# EAGLE library part HBHR-B2-10-VG-SMT (library HBHR-B2-10-VG-SMT)
Socket; IDC; male; PIN: 10; vertical; SMT; 1.27mm; Layout: 2x5 Source: Datasheet <https://www.tme.eu/Document/f0773974da5cb69f05b89f0736d15334/HBHR-B2-XX-VG-SMT.pdf>
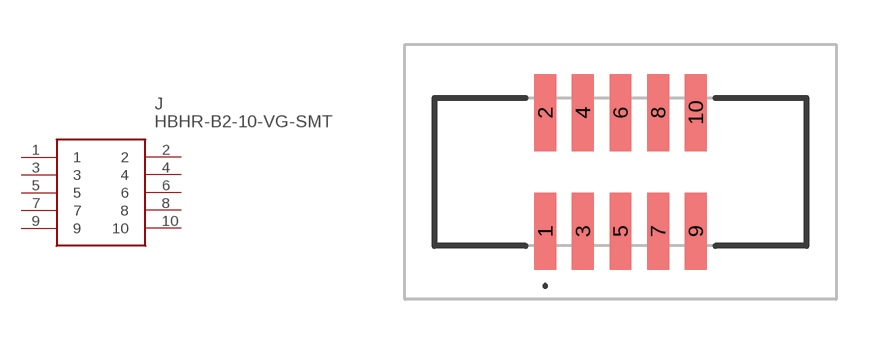
[diagram p0: symbol with the pads of HBHRB210VGSMT; footprint HBHRB210VGSMT]

Designator prefix J

## HBHR-B2-10-VG-SMT (Description: Socket; IDC; male; PIN: 10; vertical; SMT; 1.27mm; Layout: 2x5; Height: 6.081mm; Manufacturer_Name: Adam Tech; Manufacturer_Part_Number: HBHR-B2-10-VG-SMT)  [HBHRB210VGSMT]
1  1
2  2
3  3
4  4
5  5
6  6
7  7
8  8
9  9
10  10

## Footprint HBHRB210VGSMT (pad centres in mm)
HBHR-B2-10-VG-SMT-3
smd 0.74 x 2.6: 1 -2.54,-2; 2 -2.54,2; 3 -1.27,-2; 4 -1.27,2; 5 0,-2; 6 0,2; 7 1.27,-2; 8 1.27,2; 9 2.54,-2; 10 2.54,2